# Altium footprint library QFN24.PcbLib: 1 footprints
Each footprint in its own frame and in the unit in brackets; x right, y up, seen from the top. Pads: shape width x height; smd on the part's side, far side on the other; paste and mask are expansions set on the pad; w line width, h text height; cw(c..) or ccw(c..) is an arc to the next point about the centre after c.
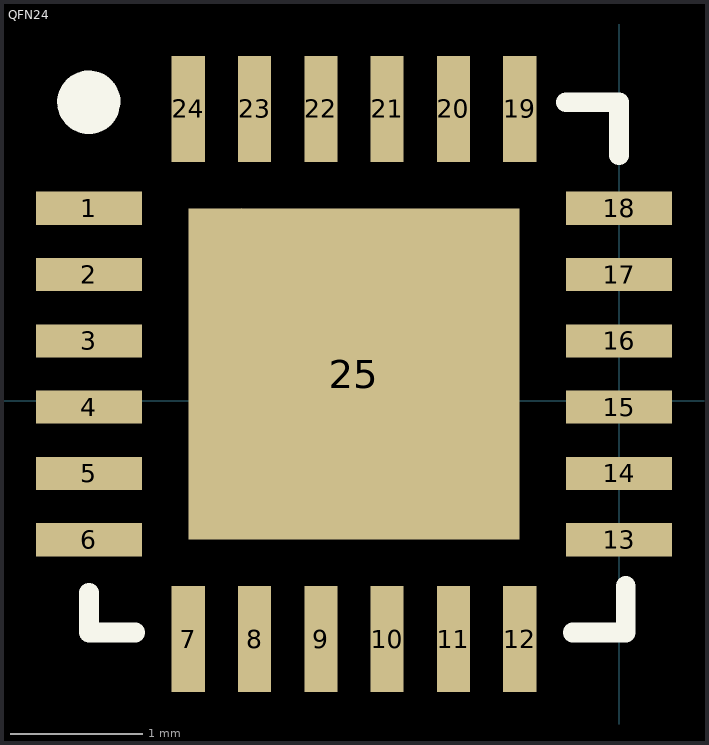
[diagram p0: the footprint, top view; thin cyan lines are the x and y axes]

## QFN24 [mm] "QFN24"
pads (25):
  rect 0.8x0.25 smd: 1(-4,1.45) 2(-4,0.95) 3(-4,0.45) 4(-4,-0.05) 5(-4,-0.55) 6(-4,-1.05) 13(0,-1.05) 14(0,-0.55) 15(0,-0.05) 16(0,0.45) 17(0,0.95) 18(0,1.45)
  rect 0.25x0.8 smd: 7(-3.25,-1.8) 8(-2.75,-1.8) 9(-2.25,-1.8) 10(-1.75,-1.8) 11(-1.25,-1.8) 12(-0.75,-1.8) 19(-0.75,2.2) 20(-1.25,2.2) 21(-1.75,2.2) 22(-2.25,2.2) 23(-2.75,2.2) 24(-3.25,2.2)
  rect 2.5x2.5 smd: 25(-2,0.2)
Top Overlay:
  lines w0: -2.85,1.45 -2.85,1.45
  lines w0.15: -4,-1.45 -4,-1.75 -3.65,-1.75 ; -0.4,2.25 0,2.25 0,1.85 ; -0.35,-1.75 0.05,-1.75 0.05,-1.4
  lines w0.254: -3.9,2.2 cw(c-4,2.25) -3.888,2.25